# Altium footprint library Button_Switch_THT.PcbLib: 98 footprints (part 6 of 7)
Each footprint in its own frame and in the unit in brackets; x right, y up, seen from the top. Pads: shape width x height; smd on the part's side, far side on the other; paste and mask are expansions set on the pad; w line width, h text height; cw(c..) or ccw(c..) is an arc to the next point about the centre after c.
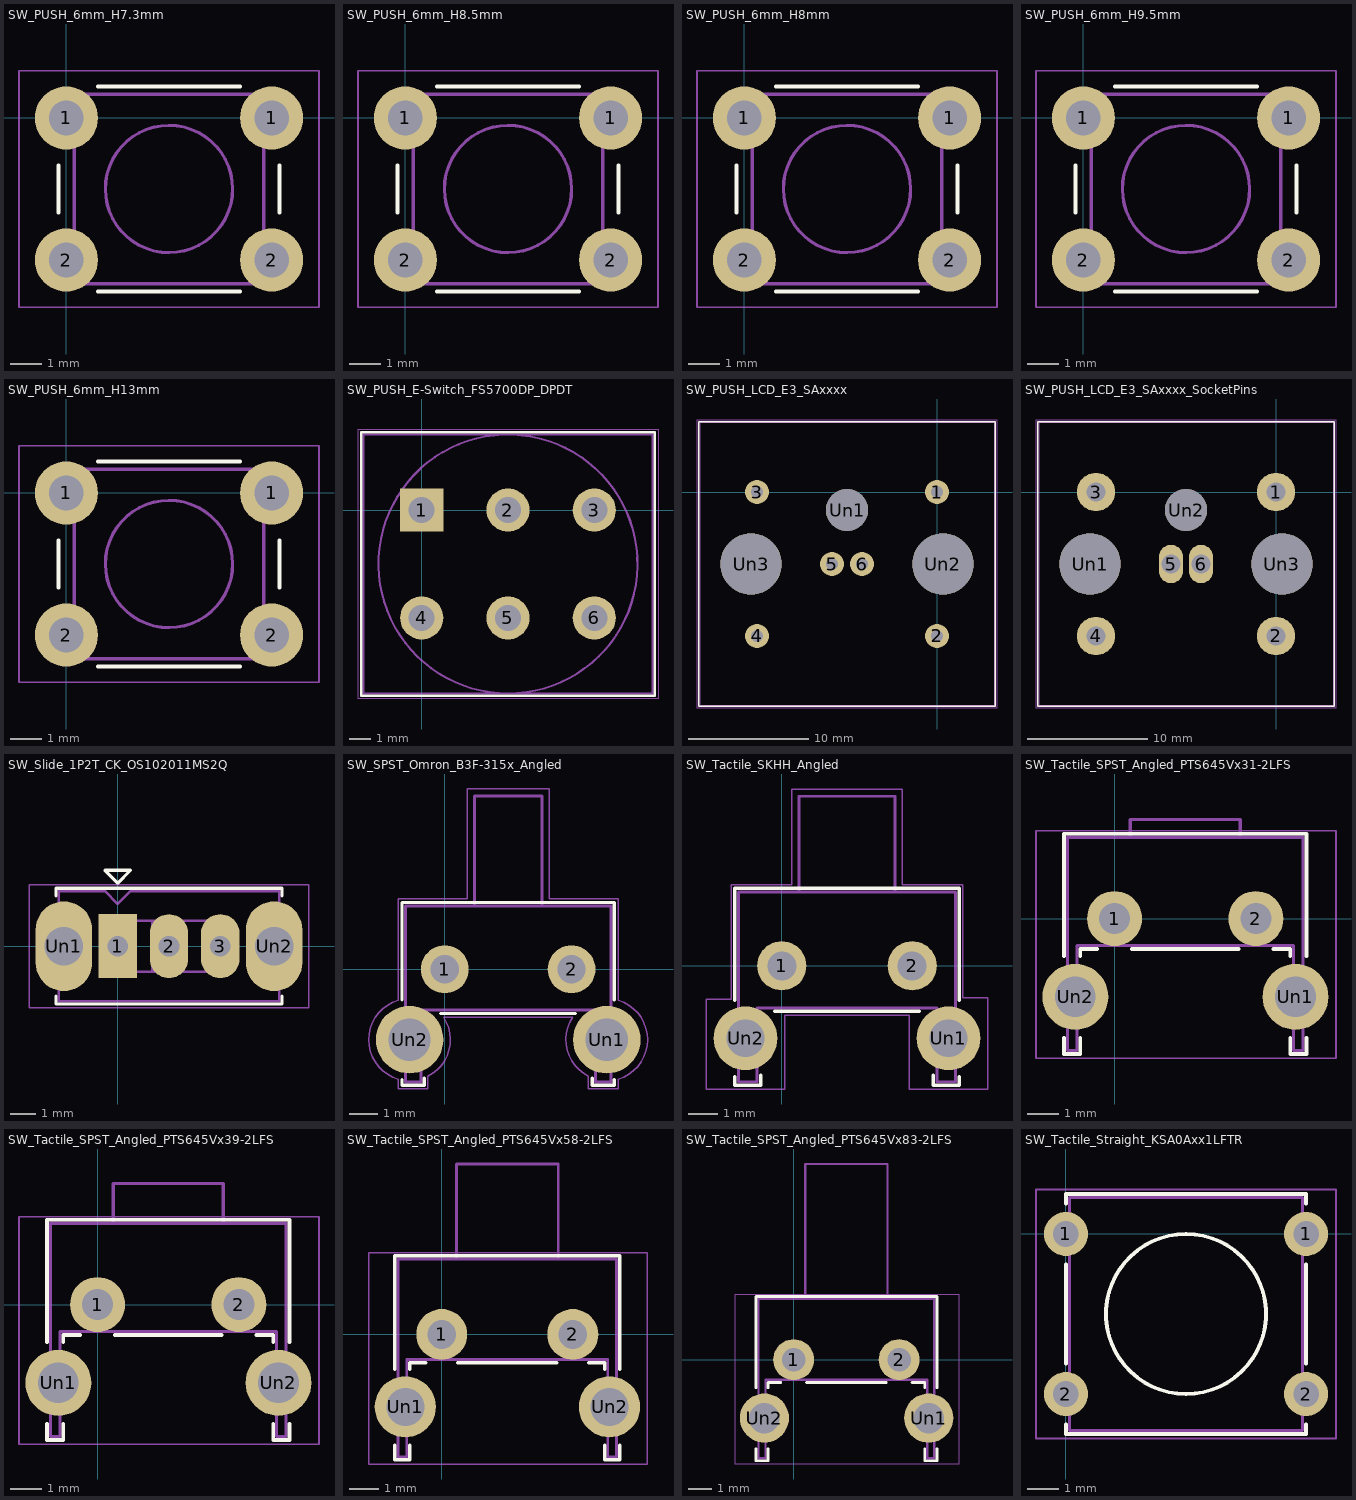
[diagram p5: the footprints below, top view; thin cyan lines are the x and y axes]

## SW_PUSH_6mm_H7.3mm [mm]
pads (4):
  round 2 hole 1.1: 1(0,0) 1(6.5,0) 2(0,-4.5) 2(6.5,-4.5)
F.SilkS:
  lines w0.12: -0.25,-3 -0.25,-1.5 ; 1,-5.5 5.5,-5.5 ; 1,1 5.5,1 ; 6.75,-3 6.75,-1.5
F.CrtYd:
  lines w0.05: -1.5,-6 -1.25,-6 7.75,-6 8,-6 8,-5.75 8,1.25 8,1.5 7.75,1.5 -1.25,1.5 -1.5,1.5 -1.5,1.25 -1.5,-5.75 -1.5,-6
F.Fab:
  circle w0.1: c3.25,-2.25 r2.016
  lines w0.1: 0.25,-5.25 6.25,-5.25 6.25,0.75 3.25,0.75 0.25,0.75 0.25,-5.25
  text "'.Designator'" at -0.797,-3.09 h1

## SW_PUSH_6mm_H8.5mm [mm]
pads (4):
  round 2 hole 1.1: 1(0,0) 1(6.5,0) 2(0,-4.5) 2(6.5,-4.5)
F.SilkS:
  lines w0.12: -0.25,-3 -0.25,-1.5 ; 1,-5.5 5.5,-5.5 ; 1,1 5.5,1 ; 6.75,-3 6.75,-1.5
F.CrtYd:
  lines w0.05: -1.5,-6 -1.25,-6 7.75,-6 8,-6 8,-5.75 8,1.25 8,1.5 7.75,1.5 -1.25,1.5 -1.5,1.5 -1.5,1.25 -1.5,-5.75 -1.5,-6
F.Fab:
  circle w0.1: c3.25,-2.25 r2.016
  lines w0.1: 0.25,-5.25 0.25,0.75 3.25,0.75 6.25,0.75 6.25,-5.25 0.25,-5.25
  text "'.Designator'" at -0.797,-3.09 h1

## SW_PUSH_6mm_H8mm [mm]
pads (4):
  round 2 hole 1.1: 1(0,0) 1(6.5,0) 2(0,-4.5) 2(6.5,-4.5)
F.SilkS:
  lines w0.12: -0.25,-3 -0.25,-1.5 ; 1,-5.5 5.5,-5.5 ; 1,1 5.5,1 ; 6.75,-3 6.75,-1.5
F.CrtYd:
  lines w0.05: -1.5,-6 -1.5,-5.75 -1.5,1.25 -1.5,1.5 -1.25,1.5 7.75,1.5 8,1.5 8,1.25 8,-5.75 8,-6 7.75,-6 -1.25,-6 -1.5,-6
F.Fab:
  circle w0.1: c3.25,-2.25 r2.016
  lines w0.1: 0.25,-5.25 6.25,-5.25 6.25,0.75 3.25,0.75 0.25,0.75 0.25,-5.25
  text "'.Designator'" at -0.797,-3.09 h1

## SW_PUSH_6mm_H9.5mm [mm]
pads (4):
  round 2 hole 1.1: 1(0,0) 1(6.5,0) 2(0,-4.5) 2(6.5,-4.5)
F.SilkS:
  lines w0.12: -0.25,-3 -0.25,-1.5 ; 1,-5.5 5.5,-5.5 ; 1,1 5.5,1 ; 6.75,-3 6.75,-1.5
F.CrtYd:
  lines w0.05: -1.5,-6 -1.25,-6 7.75,-6 8,-6 8,-5.75 8,1.25 8,1.5 7.75,1.5 -1.25,1.5 -1.5,1.5 -1.5,1.25 -1.5,-5.75 -1.5,-6
F.Fab:
  circle w0.1: c3.25,-2.25 r2.016
  lines w0.1: 0.25,-5.25 0.25,0.75 3.25,0.75 6.25,0.75 6.25,-5.25 0.25,-5.25
  text "'.Designator'" at -0.797,-3.09 h1

## SW_PUSH_6mm_H13mm [mm]
pads (4):
  round 2 hole 1.1: 1(0,0) 1(6.5,0) 2(0,-4.5) 2(6.5,-4.5)
F.SilkS:
  lines w0.12: -0.25,-3 -0.25,-1.5 ; 1,-5.5 5.5,-5.5 ; 1,1 5.5,1 ; 6.75,-3 6.75,-1.5
F.CrtYd:
  lines w0.05: -1.5,-6 -1.25,-6 7.75,-6 8,-6 8,-5.75 8,1.25 8,1.5 7.75,1.5 -1.25,1.5 -1.5,1.5 -1.5,1.25 -1.5,-5.75 -1.5,-6
F.Fab:
  circle w0.1: c3.25,-2.25 r2.016
  lines w0.1: 0.25,-5.25 0.25,0.75 3.25,0.75 6.25,0.75 6.25,-5.25 0.25,-5.25
  text "'.Designator'" at -0.797,-3.09 h1

## SW_PUSH_E-Switch_FS5700DP_DPDT [mm]
pads (6):
  rect 2x2 hole 1.2: 1(0,0)
  round 2 hole 1.2: 2(4,0) 3(8,0) 4(0,-5) 5(4,-5) 6(8,-5)
F.SilkS:
  lines w0.12: -2.8,-8.6 10.8,-8.6 10.8,3.6 -2.8,3.6 -2.8,-8.6
F.CrtYd:
  lines w0.05: -2.95,-8.75 10.95,-8.75 10.95,3.75 -2.95,3.75 -2.95,-8.75
F.Fab:
  circle w0.1: c4,-2.5 r6.001
  lines w0.1: -2.7,-8.5 -2.7,3.5 10.7,3.5 10.7,-8.5 -2.7,-8.5
  text "'.Designator'" at -0.047,-3.34 h1

## SW_PUSH_LCD_E3_SAxxxx [mm]
pads (9):
  round 2 hole 1: 1(0,0) 2(0,-12) 3(-15,0) 4(-15,-12) 5(-8.75,-6) 6(-6.25,-6)
  round 3.5 hole 3.5: Un1(-7.5,-1.5)
  round 5.1 hole 5.1: Un2(0.5,-6) Un3(-15.5,-6)
F.SilkS:
  lines w0.12: -19.85,-17.85 4.85,-17.85 4.85,5.85 -19.85,5.85 -19.85,-17.85
F.CrtYd:
  lines w0.05: -20,-18 5,-18 5,6 -20,6 -20,-18
F.Fab:
  lines w0.1: -19.75,-17.75 4.75,-17.75 4.75,5.75 -19.75,5.75 -19.75,-17.75
  text "'.Designator'" at -11.547,-6.84 h1

## SW_PUSH_LCD_E3_SAxxxx_SocketPins [mm]
pads (9):
  round 3.2 hole 1.6: 1(0,0) 2(0,-12) 3(-15,0) 4(-15,-12)
  rrect100% 2x3.2 hole 1.6: 5(-8.75,-6) 6(-6.25,-6)
  round 5.1 hole 5.1: Un1(-15.5,-6) Un3(0.5,-6)
  round 3.5 hole 3.5: Un2(-7.5,-1.5)
F.SilkS:
  lines w0.12: -19.85,-17.85 4.85,-17.85 4.85,5.85 -19.85,5.85 -19.85,-17.85
F.CrtYd:
  lines w0.05: -20,-18 5,-18 5,6 -20,6 -20,-18
F.Fab:
  lines w0.1: -19.75,-17.75 4.75,-17.75 4.75,5.75 -19.75,5.75 -19.75,-17.75
  text "'.Designator'" at -11.547,-6.84 h1

## SW_Slide_1P2T_CK_OS102011MS2Q [mm]
pads (5):
  rect 1.5x2.5 hole 0.8: 1(0,0)
  rrect100% 1.5x2.5 hole 0.8: 2(2,0) 3(4,0)
  rrect100% 2.2x3.5 hole 1.5: Un1(-2.1,0) Un2(6.1,0)
F.SilkS:
  lines w0.12: -2.41,-1.95 -2.41,-2.26 6.41,-2.26 6.41,-1.95 ; -2.41,1.95 -2.41,2.26 6.41,2.26 6.41,1.95 ; -0.5,2.96 0.5,2.96 0,2.46 -0.5,2.96
B.CrtYd:
  lines w0.05: -3.45,-2.4 -3.45,2.4 7.45,2.4 7.45,-2.4 -3.45,-2.4
F.Fab:
  lines w0.1: 0.66,-1 0.66,1 ; 1.34,-1 1.34,1 ; 2,-1 2,1 ; -2.3,-2.15 -2.3,2.15 -0.5,2.15 0,1.65 0.5,2.15 6.3,2.15 6.3,-2.15 -2.3,-2.15 ; 0,-1 4,-1 4,1 0,1 0,-1
  text "'.Designator'" at -0.057,2.15 h1

## SW_SPST_Omron_B3F-315x_Angled [mm]
pads (4):
  round 1.7 hole 1: 1(0,0) 2(4.5,0)
  round 2.4 hole 1.5: Un1(5.75,-2.5) Un2(-1.25,-2.5)
F.SilkS:
  lines w0.12: -1.52,-3.92 -1.52,-4.12 -0.73,-4.12 -0.73,-3.87 ; -1.52,-1.08 -1.52,2.37 6.02,2.37 6.02,-1.08 ; -0.14,-1.57 4.64,-1.57 ; 5.23,-3.87 5.23,-4.12 6.02,-4.12 6.02,-3.92
F.CrtYd:
  lines w0.05: -1.65,-4.25 -0.6,-4.25 -0.6,-3.8 ccw(c-1.262,-2.499) -0.04,-1.7 4.54,-1.7 ccw(c5.754,-2.501) 5.1,-3.8 5.1,-4.25 6.15,-4.25 6.15,-3.9 ccw(c5.742,-2.5) 6.15,-1.1 6.15,2.5 3.7,2.5 3.7,6.4 0.8,6.4 0.8,2.5 -1.65,2.5 -1.65,-1.1 ccw(c-1.242,-2.5) -1.65,-3.9 -1.65,-4.25
F.Fab:
  lines w0.1: 1.05,2.25 1.05,6.15 3.45,6.15 3.45,2.25 ; -1.4,-4 -1.4,2.25 5.9,2.25 5.9,-4 5.35,-4 5.35,-1.45 -0.85,-1.45 -0.85,-4 -1.4,-4
  text "'.Designator'" at -1.797,0.66 h1

## SW_Tactile_SKHH_Angled [mm]
pads (4):
  round 1.7 hole 1: 1(0,0) 2(4.5,0)
  round 2.2 hole 1.3: Un1(5.75,-2.5) Un2(-1.25,-2.5)
F.SilkS:
  lines w0.12: -1.62,-3.82 -1.62,-4.12 -0.73,-4.12 -0.73,-3.77 ; -1.62,-1.18 -1.62,2.67 6.12,2.67 6.12,-1.18 ; -0.24,-1.57 4.74,-1.57 ; 5.23,-3.77 5.23,-4.12 6.12,-4.12 6.12,-3.82
F.CrtYd:
  lines w0.05: -2.6,-4.25 0.1,-4.25 0.1,-1.7 4.4,-1.7 4.4,-4.25 7.1,-4.25 7.1,-1.1 6.25,-1.1 6.25,2.8 4.15,2.8 4.15,6.1 0.35,6.1 0.35,2.8 -1.75,2.8 -1.75,-1.15 -2.6,-1.15 -2.6,-4.25
F.Fab:
  lines w0.1: 0.6,2.55 0.6,5.85 3.9,5.85 3.9,2.55 ; -1.5,-4 -1.5,2.55 6,2.55 6,-4 5.35,-4 5.35,-1.45 -0.85,-1.45 -0.85,-4 -1.5,-4
  text "'.Designator'" at -1.797,0.66 h1

## SW_Tactile_SPST_Angled_PTS645Vx31-2LFS [mm]
pads (4):
  round 1.75 hole 0.99: 1(0,0) 2(4.5,0)
  round 2.1 hole 1.3: Un1(5.76,-2.49) Un2(-1.25,-2.49)
F.SilkS:
  lines w0.12: -1.61,-3.8 -1.61,-4.31 -1.09,-4.31 -1.09,-3.8 ; -1.61,-1.2 -1.61,2.7 6.11,2.7 6.11,-1.2 ; -1.09,-1.2 -1.09,-0.97 -0.55,-0.97 ; 0.55,-0.97 3.95,-0.97 ; 5.05,-0.97 5.59,-0.97 5.59,-1.2 ; 5.59,-3.8 5.59,-4.31 6.11,-4.31 6.11,-3.8
F.CrtYd:
  lines w0.05: -2.5,-4.45 7.05,-4.45 7.05,2.8 -2.5,2.8 -2.5,-4.45
F.Fab:
  lines w0.1: 0.5,2.59 0.5,3.15 4,3.15 4,2.59 ; -1.5,-4.2 -1.5,2.59 6,2.59 6,-4.2 5.7,-4.2 5.7,-0.86 -1.2,-0.86 -1.2,-4.2 -1.5,-4.2
  text "'.Designator'" at -1.797,-2.52 h1

## SW_Tactile_SPST_Angled_PTS645Vx39-2LFS [mm]
pads (4):
  round 1.75 hole 0.99: 1(0,0) 2(4.5,0)
  round 2.1 hole 1.3: Un1(-1.25,-2.49) Un2(5.76,-2.49)
F.SilkS:
  lines w0.12: -1.61,-3.8 -1.61,-4.31 -1.09,-4.31 -1.09,-3.8 ; -1.61,-1.2 -1.61,2.7 6.11,2.7 6.11,-1.2 ; -1.09,-1.2 -1.09,-0.97 -0.55,-0.97 ; 0.55,-0.97 3.95,-0.97 ; 5.05,-0.97 5.59,-0.97 5.59,-1.2 ; 5.59,-3.8 5.59,-4.31 6.11,-4.31 6.11,-3.8
F.CrtYd:
  lines w0.05: -2.5,-4.45 -2.5,2.8 7.05,2.8 7.05,-4.45 -2.5,-4.45
F.Fab:
  lines w0.1: 0.5,2.59 0.5,3.85 4,3.85 4,2.59 ; -1.5,-4.2 -1.2,-4.2 -1.2,-0.86 5.7,-0.86 5.7,-4.2 6,-4.2 6,2.59 -1.5,2.59 -1.5,-4.2
  text "'.Designator'" at -1.797,-2.52 h1

## SW_Tactile_SPST_Angled_PTS645Vx58-2LFS [mm]
pads (4):
  round 1.75 hole 0.99: 1(0,0) 2(4.5,0)
  round 2.1 hole 1.3: Un1(-1.25,-2.49) Un2(5.76,-2.49)
F.SilkS:
  lines w0.12: -1.61,-3.8 -1.61,-4.31 -1.09,-4.31 -1.09,-3.8 ; -1.61,-1.2 -1.61,2.7 6.11,2.7 6.11,-1.2 ; -1.09,-1.2 -1.09,-0.97 -0.55,-0.97 ; 0.55,-0.97 3.95,-0.97 ; 5.05,-0.97 5.59,-0.97 5.59,-1.2 ; 5.59,-3.8 5.59,-4.31 6.11,-4.31 6.11,-3.8
F.CrtYd:
  lines w0.05: -2.5,-4.45 7.05,-4.45 7.05,2.8 -2.5,2.8 -2.5,-4.45
F.Fab:
  lines w0.1: 0.5,2.59 0.5,5.85 4,5.85 4,2.59 ; -1.5,-4.2 -1.2,-4.2 -1.2,-0.86 5.7,-0.86 5.7,-4.2 6,-4.2 6,2.59 -1.5,2.59 -1.5,-4.2
  text "'.Designator'" at -1.797,-2.52 h1

## SW_Tactile_SPST_Angled_PTS645Vx83-2LFS [mm]
pads (4):
  round 1.75 hole 0.99: 1(0,0) 2(4.5,0)
  round 2.1 hole 1.3: Un1(5.76,-2.49) Un2(-1.25,-2.49)
F.SilkS:
  lines w0.12: -1.61,-3.8 -1.61,-4.31 -1.09,-4.31 -1.09,-3.8 ; -1.61,-1.2 -1.61,2.7 6.11,2.7 6.11,-1.2 ; -1.09,-1.2 -1.09,-0.97 -0.55,-0.97 ; 0.55,-0.97 3.95,-0.97 ; 5.05,-0.97 5.59,-0.97 5.59,-1.2 ; 5.59,-3.8 5.59,-4.31 6.11,-4.31 6.11,-3.8
F.CrtYd:
  lines w0.05: -2.5,-4.45 -2.5,2.8 7.05,2.8 7.05,-4.45 -2.5,-4.45
F.Fab:
  lines w0.1: 0.5,2.59 0.5,8.35 4,8.35 4,2.59 ; -1.5,-4.2 -1.2,-4.2 -1.2,-0.86 5.7,-0.86 5.7,-4.2 6,-4.2 6,2.59 -1.5,2.59 -1.5,-4.2
  text "'.Designator'" at -1.797,-2.52 h1

## SW_Tactile_Straight_KSA0Axx1LFTR [mil]
pads (4):
  round 55 hole 32: 1(0,0) 1(300,0) 2(0,-200) 2(300,-200)
F.SilkS:
  circle w4.72: c150,-100 r100
  lines w4.72: 0,-238.19 0,-250 300,-250 300,-238.19 ; 0,-161.81 0,-38.19 ; 0,38.19 0,50 300,50 300,38.19 ; 300,-161.81 300,-38.19
F.CrtYd:
  lines w1.97: -37.4,-255.51 -37.4,55.51 337.4,55.51 337.4,-255.51 -37.4,-255.51
F.Fab:
  lines w3.94: 4.33,-245.67 295.67,-245.67 295.67,45.67 4.33,45.67 4.33,-245.67
  text "'.Designator'" at -9.32,-133.08 h39.37